# Altium footprint library RES_THD_2.2-0.25W_ASR14 .PcbLib: 1 footprints
Each footprint in its own frame and in the unit in brackets; x right, y up, seen from the top. Pads: shape width x height; smd on the part's side, far side on the other; paste and mask are expansions set on the pad; w line width, h text height; cw(c..) or ccw(c..) is an arc to the next point about the centre after c.
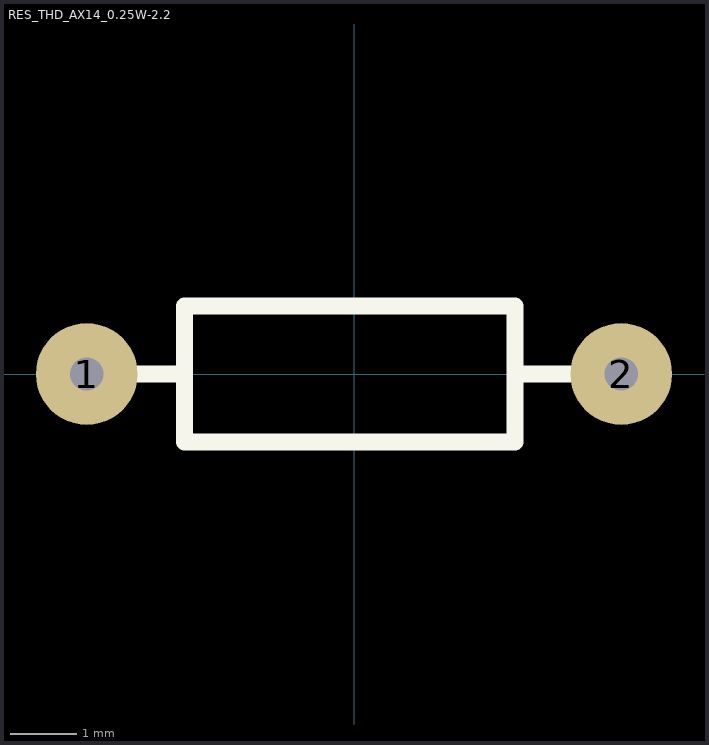
[diagram p0: the footprint, top view; thin cyan lines are the x and y axes]

## RES_THD_AX14_0.25W-2.2 [mil] "RES_THD_AX14_ 0.25W - 2.2 - 8 mm"
pads (2):
  round 60 hole 19.68: 1(-157.48,0) 2(157.48,0)
Top Overlay:
  lines w10: -157.48,0 -100,0 ; 95,0 157.48,0 ; -100,-40 95,-40 95,40 -100,40 -100,-40
3D body "RES_THD_ ASR - ASRM Series 2.2.STEP": height 96.5, standoff -96.46, extent -167.32,-45.33 167.32,45.33